# Altium footprint library SPKR_AS01508MS-SC11-WP-R.PcbLib: 1 footprints
Each footprint in its own frame and in the unit in brackets; x right, y up, seen from the top. Pads: shape width x height; smd on the part's side, far side on the other; paste and mask are expansions set on the pad; w line width, h text height; cw(c..) or ccw(c..) is an arc to the next point about the centre after c.
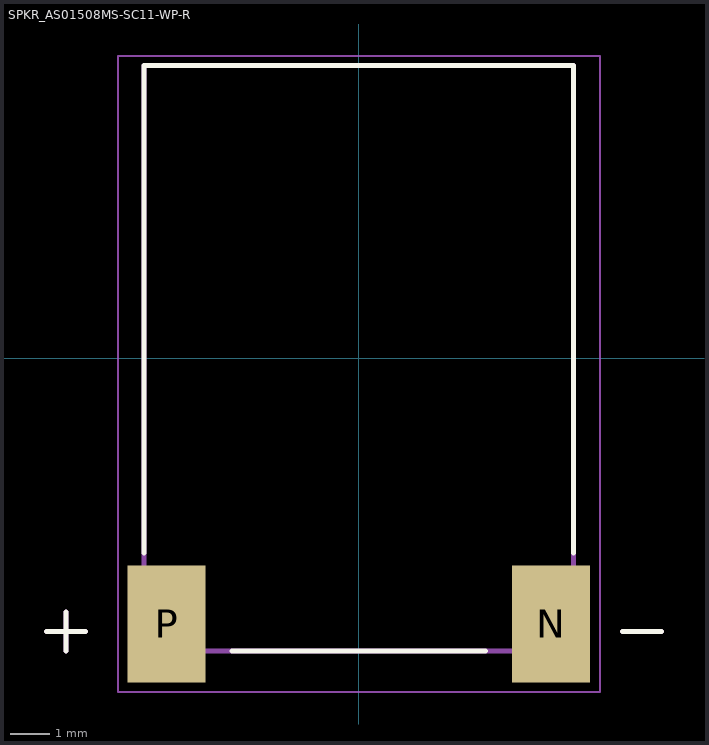
[diagram p0: the footprint, top view; thin cyan lines are the x and y axes]

## SPKR_AS01508MS-SC11-WP-R [mm]
height 3.7
pads (2):
  rect 2x3 smd: N(4.925,-6.8) P(-4.925,-6.8)
Top Overlay:
  lines w0.127: -8,-7 -7,-7 ; -7.5,-7.5 -7.5,-6.5 ; -5.5,-4.98 -5.5,7.5 5.5,7.5 5.5,-4.98 ; -3.25,-7.5 3.25,-7.5 ; 6.75,-7 7.75,-7
Mechanical 13:
  lines w0.127: -8,-7 -7,-7 ; -7.5,-7.5 -7.5,-6.5 ; 6.75,-7 7.75,-7 ; -5.5,-7.5 5.5,-7.5 5.5,7.5 -5.5,7.5 -5.5,-7.5
Mechanical 15:
  lines w0.05: -6.175,-8.55 -6.175,7.75 6.175,7.75 6.175,-8.55 -6.175,-8.55
3D body "step_temp.STEP": height 11, standoff 0, extent 0,-3.45 15,1.034